# Altium footprint library Connectors_USB.PcbLib: 7 footprints
Each footprint in its own frame and in the unit in brackets; x right, y up, seen from the top. Pads: shape width x height; smd on the part's side, far side on the other; paste and mask are expansions set on the pad; w line width, h text height; cw(c..) or ccw(c..) is an arc to the next point about the centre after c.
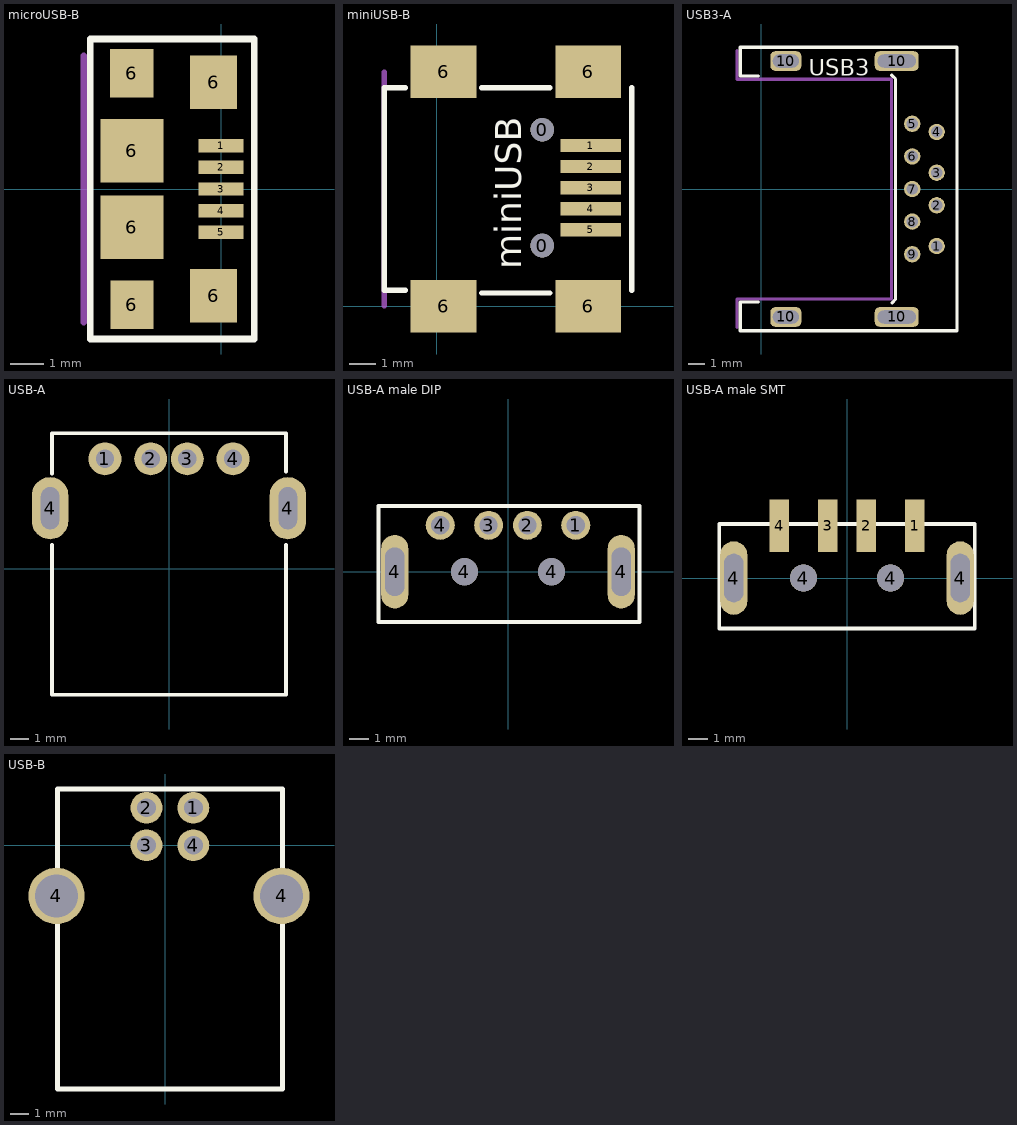
[diagram p0: the footprints below, top view; thin cyan lines are the x and y axes]

## microUSB-B [mm]
pads (11):
  rect 1.35x0.4 smd paste+0: 1(0,1.3) 2(0,0.65) 3(0,0) 4(0,-0.65) 5(0,-1.3)
  rect 1.9x1.9 smd paste+0: 6(-2.675,-1.15)
  rect 1.9x1.9 smd: 6(-2.675,1.15)
  rect 1.3x1.45 smd paste+0: 6(-2.675,3.475) 6(-2.675,-3.475)
  rect 1.4x1.6 smd paste+0: 6(-0.225,-3.2) 6(-0.225,3.2)
Top Overlay:
  lines w0.2: -3.925,-4.5 -3.925,4.5 1,4.5 1,-4.5 -3.925,-4.5
Mechanical 1:
  lines w0.2: -4.125,-4 -4.125,4
3D body "c-1981568-1-g-3d.stp": height 2.74, standoff -0.34, extent -5.425,-4 0.175,4

## miniUSB-B [mm] "miniUSB type B 5 pin"
pads (11):
  round 0.9 hole 0.9 unplated paste+0 mask+0: 0(4,2.3) 0(4,6.7)
  rect 2.3x0.5 smd paste+0: 1(5.85,6.1) 2(5.85,5.3) 3(5.85,4.5) 4(5.85,3.7) 5(5.85,2.9)
  rect 2.5x2 smd paste+0: 6(0.25,0) 6(0.25,8.9) 6(5.75,0) 6(5.75,8.9)
Top Overlay:
  lines w0.2: -1.2,0.6 -2,0.6 -2,8.3 -1.2,8.3 ; 1.7,0.5 4.3,0.5 ; 1.7,8.3 4.3,8.3 ; 7.4,0.6 7.4,8.3
  text "miniUSB" at 3.2,1.4 h1
Mechanical 1:
  lines w0.2: -2,0 -2,8.9
3D body "usb_a-usb_b-m5-smd-c.stp": height 3.93, standoff -1, extent -2.25,-0.3 7,9.6

## USB3-A [mm] "USB 3.0 Type A connector"
pads (13):
  round 1 hole 0.7: 1(10.75,-3.5) 2(10.75,-1) 3(10.75,1) 4(10.75,3.5) 5(9.25,4) 6(9.25,2) 7(9.25,0) 8(9.25,-2) 9(9.25,-4)
  rrect50% 1.9x1.2 hole 0.8 slot 1.6 at 0 deg: 10(1.5,-7.85) 10(1.5,7.85)
  rrect50% 2.7x1.2 hole 0.8 slot 2.35 at 0 deg: 10(8.3,-7.85) 10(8.3,7.85)
Top Overlay:
  lines w0.2: -0.2,6.925 -1.3,6.925 -1.3,8.7 12,8.7 12,-8.7 -1.3,-8.7 -1.3,-6.925 -0.175,-6.925 ; 8,6.975 8.225,6.75 8.225,6.725 8.225,-6.75 8.225,-6.775 8.025,-6.975
  text "USB3" at 2.9,6.95 h1
Mechanical 1:
  lines w0.2: -1.5,-8.5 -1.5,-6.75 7.975,-6.75 7.975,0 7.975,6.725 -1.5,6.725 -1.5,8.5
3D body "c-1932847-1-a-3d.stp": height 5.63, standoff -1.63, extent -3.85,-8 12.02,8

## USB-A [mm]
pads (6):
  round 1.8 hole 1: 1(-3.5,6) 2(-1,6) 3(1,6) 4(3.5,6)
  oval 2x3.4 hole 1 slot 2.3 at 90 deg: 4(-6.5,3.3) 4(6.5,3.3)
Top Overlay:
  lines w0.2: -6.4,1.3 -6.4,-6.9 6.4,-6.9 6.4,1.3 ; -6.4,5.2 -6.4,7.4 6.4,7.4 6.4,5.3
3D body "SW3dPS-USB-A-01.STEP": height 6.95, standoff -4.2, extent -8.025,-6.475 7.775,7.225

## USB-A male DIP [mm]
pads (8):
  round 1.5 hole 0.94 paste+0: 1(3.5,2.4) 2(1,2.4) 3(-1,2.4) 4(-3.5,2.4)
  oval 1.4x3.8 hole 1 slot 2.5 at 90 deg paste+0: 4(-5.85,0) 4(5.85,0)
  round 1.4 hole 1.4 unplated paste+0 mask+0: 4(-2.25,0) 4(2.25,0)
Top Overlay:
  lines w0.2: -6.7,-2.6 -5.85,-2.6 5.85,-2.6 6.8,-2.6 6.8,3.4 -6.7,3.4 -6.7,-2.6
3D body "14380.stp": height 4.5, standoff -1.3, extent -6.303,-17.325 6.303,2.6

## USB-A male SMT [mm]
pads (8):
  rect 1x2.7 smd paste+0: 1(3.5,2.7) 2(1,2.7) 3(-1,2.7) 4(-3.5,2.7)
  oval 1.4x3.8 hole 1 slot 2.5 at 90 deg paste+0: 4(-5.85,0) 4(5.85,0)
  round 1.4 hole 1.4 unplated paste+0 mask+0: 4(-2.25,0) 4(2.25,0)
Top Overlay:
  lines w0.2: -6.6,-2.6 -5.85,-2.6 5.85,-2.6 6.6,-2.6 6.6,2.8 -6.6,2.8 -6.6,-2.6
3D body "14381.stp": height 3.15, standoff -2.65, extent -6.303,-17.7 6.303,2.6

## USB-B [mm]
pads (6):
  round 1.7 hole 1: 1(1.5,2) 2(-1,2) 3(-1,0) 4(1.5,0)
  round 3 hole 2.3: 4(-5.8,-2.7) 4(6.2,-2.7)
Top Overlay:
  lines w0.254: -5.75,-13 -5.75,3 6.25,3 6.25,-13 -5.75,-13
3D body "User Library-Samtec - USB-B-S-X-W-TH.STEP": height 11, standoff -3.64, extent -7.225,-13.15 7.573,3.35